# Altium footprint library jumper.PCBLIB: 66 footprints (part 5 of 5)
Each footprint in its own frame and in the unit in brackets; x right, y up, seen from the top. Pads: shape width x height; smd on the part's side, far side on the other; paste and mask are expansions set on the pad; w line width, h text height; cw(c..) or ccw(c..) is an arc to the next point about the centre after c.
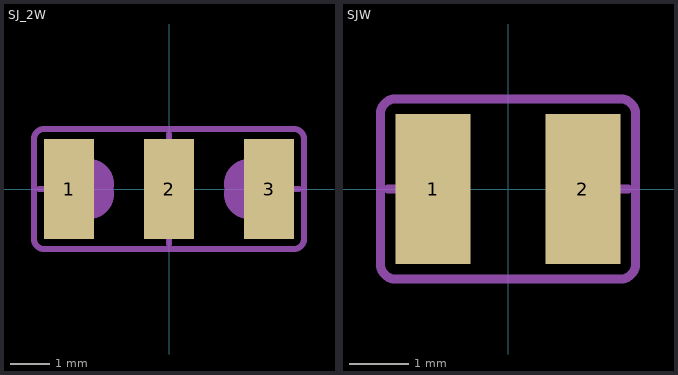
[diagram p4: the footprints below, top view; thin cyan lines are the x and y axes]

## SJ_2W [mil]
pads (3):
  rect 50x100 smd: 1(-100,0) 2(0,0) 3(100,0)
Mechanical 3:
  region: -20,-30 -20,30 20,30 20,-30
  lines w6: -130,0 -110,0 ; 0,-55 0,-30 ; 0,30 0,55 ; 110,0 130,0
  lines w50: -80,-5 cw(c-80,0) -80,5 ; 80,-5 ccw(c80,0) 80,5
Mechanical 7:
  lines w6: -135,-50 ccw(c-125,-50) -125,-60 125,-60 ccw(c125,-50) 135,-50 135,50 ccw(c125,50) 125,60 -125,60 ccw(c-125,50) -135,50 -135,-50

## SJW [mil]
pads (2):
  rect 50x100 smd: 1(-50,0) 2(50,0)
Mechanical 3:
  region: 30,-30 30,30 40,30 40,-30
  region: 40,-25 40,25 50,25 50,-25
  region: 50,-20 50,20 55,20 55,-20
  region: 55,-10 55,10 60,10 60,-10
  region: -40,-30 -40,30 -30,30 -30,-30
  region: -50,-25 -50,25 -40,25 -40,-25
  region: -55,-20 -55,20 -50,20 -50,-20
  region: -60,-10 -60,10 -55,10 -55,-10
  region: 38,-28 38,-23 43,-23 43,-28
  region: 53,-14 53,-9 58,-9 58,-14
  region: 53,8 53,13 58,13 58,8
  region: 38,23 38,28 43,28 43,23
  region: -43,-28 -43,-23 -38,-23 -38,-28
  region: -57,-13 -57,-8 -52,-8 -52,-13
  region: -58,8 -58,13 -53,13 -53,8
  region: -44,23 -44,28 -39,28 -39,23
  lines w6: -80,0 -60,0 ; 60,0 80,0 ; -30,-30 -30,30 ccw(c-30,0) -30,-30 ; 30,-30 30,30 cw(c30,0) 30,-30
Mechanical 7:
  lines w6: -85,-50 ccw(c-75,-50) -75,-60 75,-60 ccw(c75,-50) 85,-50 85,50 ccw(c75,50) 75,60 -75,60 ccw(c-75,50) -85,50 -85,-50